# Altium integrated library Cypress Clocks & Buffers Clock Generation.IntLib: 249 symbols (part 6 of 12)
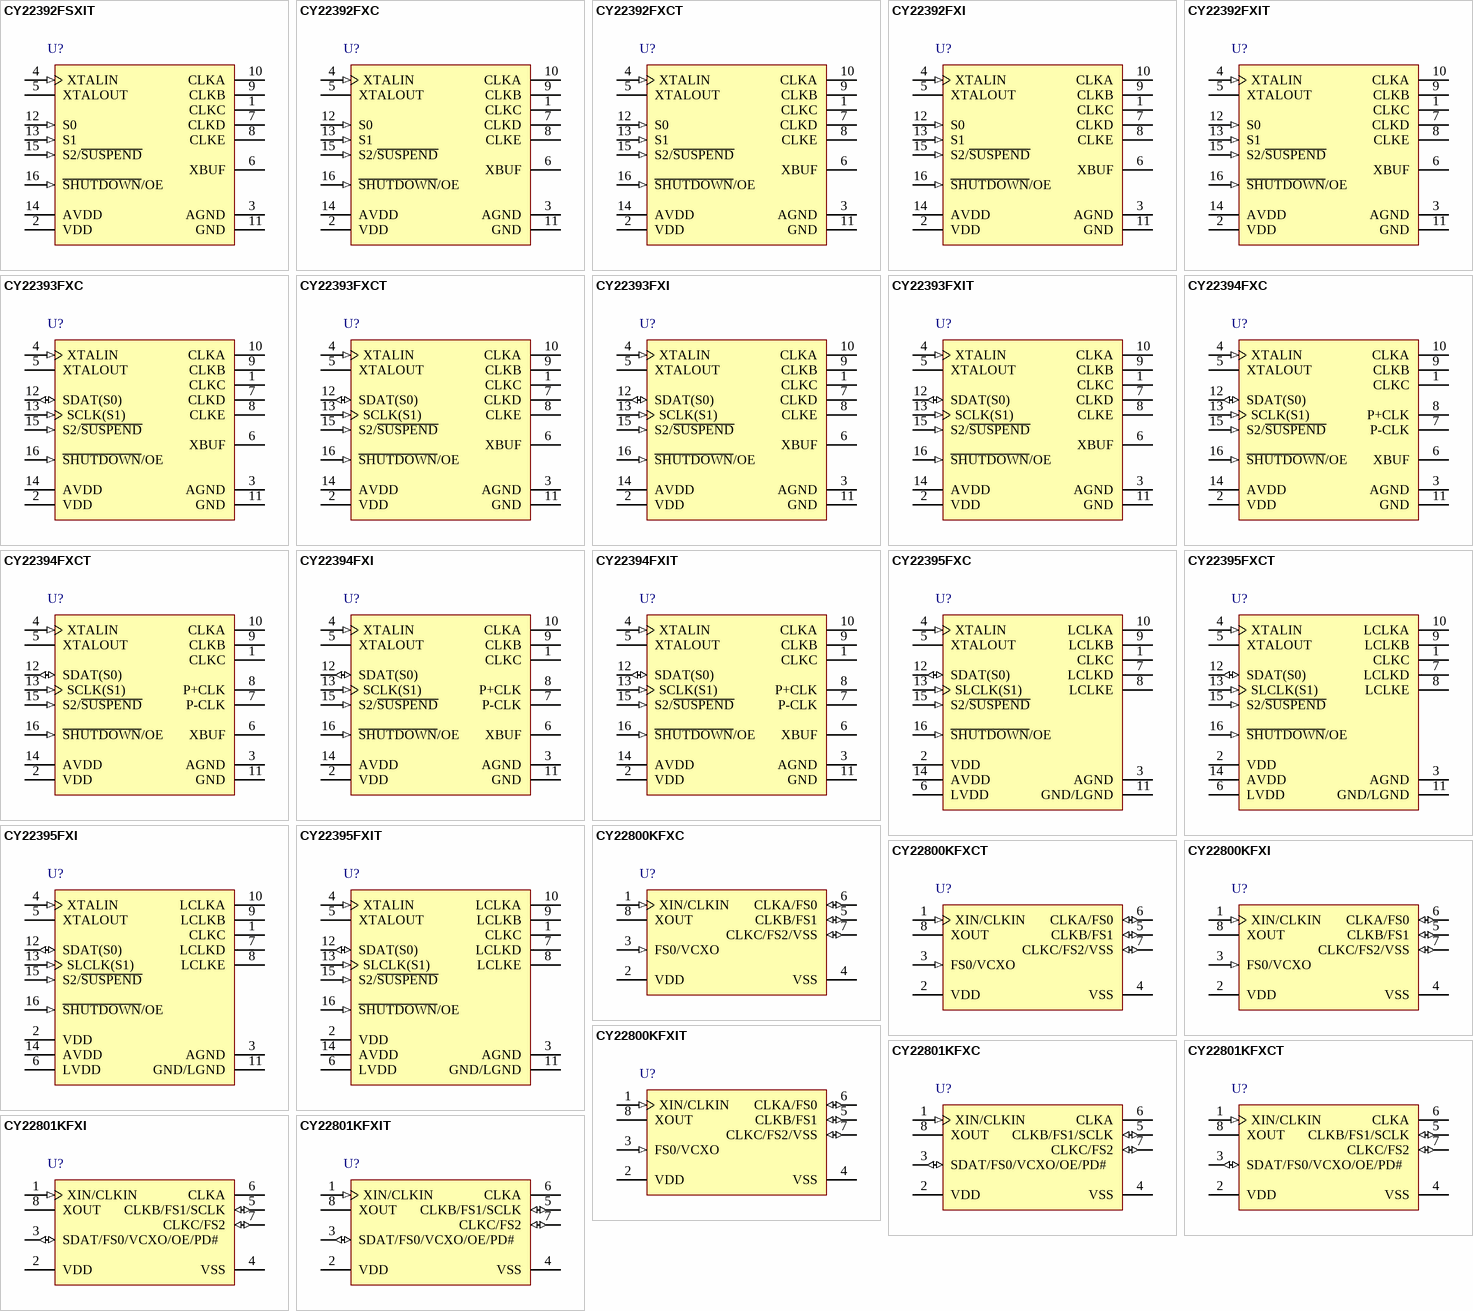
[diagram p13: symbols CY22392FSXIT to CY22801KFXIT]

## CY22395FXIT
designator U?
Three-PLL Serial-Programmable Flash-Programmable Clock Generator, 2.5 / 3.3 V, 5 Outputs, 166 MHz Maximum, -40 to 85 degC, 16-Pin TSSOP (ZX16), Tape and Reel; Manufacturer: Cypress; PartNumber: CY22395FXIT; Input Frequency Max. (MHz): 150; Input Frequency Min. (MHz): 1; Max. Operating Voltage (V): 3.465; Min. Operating Voltage (V): 3.135; No. of Outputs: 5; Output Frequency Max. (MHz): 166; DatasheetVersion: Rev. *I; PackageVersion: Rev. *D, 09/2011; PackageReference: ZX16; PackageDescription: 16-Pin Thin Shrink Small Outline Package, Body 5 x 4.4 mm, Pitch 0.65 mm; Supplier 1: Digi-Key; Supplier Part Number 1: CY22395FXIT-ND; Supplier 2: Mouser; Supplier Part Number 2: 727-CY22395FXIT; Max. Operating Temp. (degreesC): 85; Min. Operating Temp. (degreesC): -40; Packing: Tape and Reel; RoHS: Pb-Free; Mounting Technology: Surface Mount; Code_JEDEC: MO-153; ComponentLink1Description: Manufacturer URL; ComponentLink1URL: http://www.cypress.com/; ComponentLink2Description: Datasheet; ComponentLink2URL: http://www.cypress.com/?docID=35555; ComponentLink3Description: Package Specification; ComponentLink3URL: http://www.cypress.com/?docID=39143
footprint CYP-ZX16_N (SOP, 16-Leads, Body 5.1x4.5mm, Pitch 0.65mm, IPC Medium Density)
footprint CYP-ZX16_L (SOP, 16-Leads, Body 5.1x4.5mm, Pitch 0.65mm, IPC High Density)
footprint CYP-ZX16_M (SOP, 16-Leads, Body 5.1x4.5mm, Pitch 0.65mm, IPC Low Density)
pins: 1 CLKC (hiz) "Configurable clock output C", 2 VDD (power) "Power supply", 3 AGND (power) "Analog Ground", 4 XTALIN (in) "Reference crystal input or external reference clock input", 5 XTALOUT "Reference crystal feedback", 6 LVDD (power) "Low voltage clock output power supply", 7 LCLKD (hiz) "Configurable clock output D; LCLKD referenced to LVDD", 8 LCLKE (hiz) "Configurable clock output E; LCLKE referenced to LVDD", 9 LCLKB (hiz) "Configurable clock output B; LCLKB referenced to LVDD", 10 LCLKA (hiz) "Configurable clock output A; LCLKA referenced to LVDD", 11 GND/LGND (power) "Ground", 12 SDAT(S0) (io) "Serial port data. S0 value latched during start up", 13 SLCLK(S1) (in) "Serial port clock. S1 value latched during start up", 14 AVDD (power) "Analog power supply", 15 S2/~{SUSPEND} (in) "General purpose input for frequency control; bit 2. Optionally, Suspend mode control input", 16 ~{SHUTDOWN}/OE (in) "Places outputs in tristate condition and shuts down chip when LOW. Optionally, only places outputs in tristate condition and does not shut down chip when LOW"

## CY22800KFXC
designator U?
Universal Programmable Clock Generator (UPCG), 3.3 V, 3 Outputs, 1 to 200 MHz, 0 to 70 degC, 8-Pin SOIC (SX8), Tube; Manufacturer: Cypress; PartNumber: CY22800KFXC; Input Frequency Max. (MHz): 100; Input Frequency Min. (MHz): 0.5; Max. Operating Voltage (V): 3.47; Min. Operating Voltage (V): 3.14; No. of Outputs: 3; Output Frequency Max. (MHz): 200; Output Frequency Min. (MHz): 1; DatasheetVersion: Rev. *E; PackageVersion: Rev. *E, 06/2011; PackageReference: SX8; PackageDescription: 8-pin Lead SOIC-S08, Body 4.89 x 3.90 mm,Pitch 1.27 mm; Supplier 1: Digi-Key; Supplier Part Number 1: CY22800KFXC-ND; Supplier 2: Mouser; Supplier Part Number 2: 727-CY22800KFXC; Max. Operating Temp. (degreesC): 70; Min. Operating Temp. (degreesC): 0; Packing: Tube; RoHS: Pb-Free; Mounting Technology: Surface Mount; Code_JEDEC: MS-012; ComponentLink1Description: Manufacturer URL; ComponentLink1URL: http://www.cypress.com/; ComponentLink2Description: Datasheet; ComponentLink2URL: http://www.cypress.com/?docID=33233; ComponentLink3Description: Package Specification; ComponentLink3URL: http://www.cypress.com/?docID=39153
footprint CYP-SX8_N (SOIC, 8-Leads, Body 4.89x3.90mm, Pitch 1.27mm, IPC Medium Density)
footprint CYP-SX8_L (SOIC, 8-Leads, Body 4.89x3.90mm, Pitch 1.27mm, IPC High Density)
footprint CYP-SX8_M (SOIC, 8-Leads, Body 4.89x3.90mm, Pitch 1.27mm, IPC Low Density)
pins: 1 XIN/CLKIN (in) "Reference input; crystal or external clock", 2 VDD (power) "3.3 V voltage supply", 3 FS0/VCXO (in) "Frequency select 0/VCXO analog control voltage", 4 VSS (power) "Ground", 5 CLKB/FS1 (io) "Clock output B/frequency select 1", 6 CLKA/FS0 (io) "Clock output A/frequency select 0", 7 CLKC/FS2/VSS (io) "Clock output C/frequency select 2/VSS", 8 XOUT "Reference output (No Connect when the reference is a clock)"

## CY22800KFXCT
designator U?
Universal Programmable Clock Generator (UPCG), 3.3 V, 3 Outputs, 1 to 200 MHz, 0 to 70 degC, 8-Pin SOIC (SX8), Tape and Reel; Manufacturer: Cypress; PartNumber: CY22800KFXCT; Input Frequency Max. (MHz): 100; Input Frequency Min. (MHz): 0.5; Max. Operating Voltage (V): 3.47; Min. Operating Voltage (V): 3.14; No. of Outputs: 3; Output Frequency Max. (MHz): 200; Output Frequency Min. (MHz): 1; DatasheetVersion: Rev. *E; PackageVersion: Rev. *E, 06/2011; PackageReference: SX8; PackageDescription: 8-pin Lead SOIC-S08, Body 4.89 x 3.90 mm,Pitch 1.27 mm; Supplier 1: Digi-Key; Supplier Part Number 1: CY22800KFXCT-ND; Supplier 2: Mouser; Supplier Part Number 2: 727-CY22800KFXCT; Max. Operating Temp. (degreesC): 70; Min. Operating Temp. (degreesC): 0; Packing: Tape and Reel; RoHS: Pb-Free; Mounting Technology: Surface Mount; Code_JEDEC: MS-012; ComponentLink1Description: Manufacturer URL; ComponentLink1URL: http://www.cypress.com/; ComponentLink2Description: Datasheet; ComponentLink2URL: http://www.cypress.com/?docID=33233; ComponentLink3Description: Package Specification; ComponentLink3URL: http://www.cypress.com/?docID=39153
footprint CYP-SX8_N (SOIC, 8-Leads, Body 4.89x3.90mm, Pitch 1.27mm, IPC Medium Density)
footprint CYP-SX8_L (SOIC, 8-Leads, Body 4.89x3.90mm, Pitch 1.27mm, IPC High Density)
footprint CYP-SX8_M (SOIC, 8-Leads, Body 4.89x3.90mm, Pitch 1.27mm, IPC Low Density)
pins: 1 XIN/CLKIN (in) "Reference input; crystal or external clock", 2 VDD (power) "3.3 V voltage supply", 3 FS0/VCXO (in) "Frequency select 0/VCXO analog control voltage", 4 VSS (power) "Ground", 5 CLKB/FS1 (io) "Clock output B/frequency select 1", 6 CLKA/FS0 (io) "Clock output A/frequency select 0", 7 CLKC/FS2/VSS (io) "Clock output C/frequency select 2/VSS", 8 XOUT "Reference output (No Connect when the reference is a clock)"

## CY22800KFXI
designator U?
Universal Programmable Clock Generator (UPCG), 3.3 V, 3 Outputs, 1 to 166 MHz, -40 to 85 degC, 8-Pin SOIC (SX8), Tube; Manufacturer: Cypress; PartNumber: CY22800KFXI; Input Frequency Max. (MHz): 100; Input Frequency Min. (MHz): 0.5; Max. Operating Voltage (V): 3.47; Min. Operating Voltage (V): 3.14; No. of Outputs: 3; Output Frequency Max. (MHz): 166; Output Frequency Min. (MHz): 1; DatasheetVersion: Rev. *E; PackageVersion: Rev. *E, 06/2011; PackageReference: SX8; PackageDescription: 8-pin Lead SOIC-S08, Body 4.89 x 3.90 mm,Pitch 1.27 mm; Supplier 1: Digi-Key; Supplier Part Number 1: 428-3042-ND; Supplier 2: Mouser; Supplier Part Number 2: 727-CY22800KFXI; Max. Operating Temp. (degreesC): 85; Min. Operating Temp. (degreesC): -40; Packing: Tube; RoHS: Pb-Free; Mounting Technology: Surface Mount; Code_JEDEC: MS-012; ComponentLink1Description: Manufacturer URL; ComponentLink1URL: http://www.cypress.com/; ComponentLink2Description: Datasheet; ComponentLink2URL: http://www.cypress.com/?docID=33233; ComponentLink3Description: Package Specification; ComponentLink3URL: http://www.cypress.com/?docID=39153
footprint CYP-SX8_N (SOIC, 8-Leads, Body 4.89x3.90mm, Pitch 1.27mm, IPC Medium Density)
footprint CYP-SX8_L (SOIC, 8-Leads, Body 4.89x3.90mm, Pitch 1.27mm, IPC High Density)
footprint CYP-SX8_M (SOIC, 8-Leads, Body 4.89x3.90mm, Pitch 1.27mm, IPC Low Density)
pins: 1 XIN/CLKIN (in) "Reference input; crystal or external clock", 2 VDD (power) "3.3 V voltage supply", 3 FS0/VCXO (in) "Frequency select 0/VCXO analog control voltage", 4 VSS (power) "Ground", 5 CLKB/FS1 (io) "Clock output B/frequency select 1", 6 CLKA/FS0 (io) "Clock output A/frequency select 0", 7 CLKC/FS2/VSS (io) "Clock output C/frequency select 2/VSS", 8 XOUT "Reference output (No Connect when the reference is a clock)"

## CY22800KFXIT
designator U?
Universal Programmable Clock Generator (UPCG), 3.3 V, 3 Outputs, 1 to 166 MHz, -40 to 85 degC, 8-Pin SOIC (SX8), Tape and Reel; Manufacturer: Cypress; PartNumber: CY22800KFXIT; Input Frequency Max. (MHz): 100; Input Frequency Min. (MHz): 0.5; Max. Operating Voltage (V): 3.47; Min. Operating Voltage (V): 3.14; No. of Outputs: 3; Output Frequency Max. (MHz): 166; Output Frequency Min. (MHz): 1; DatasheetVersion: Rev. *E; PackageVersion: Rev. *E, 06/2011; PackageReference: SX8; PackageDescription: 8-pin Lead SOIC-S08, Body 4.89 x 3.90 mm,Pitch 1.27 mm; Supplier 1: Digi-Key; Supplier Part Number 1: CY22800KFXIT-ND; Supplier 2: Mouser; Supplier Part Number 2: 727-CY22800KFXIT; Max. Operating Temp. (degreesC): 85; Min. Operating Temp. (degreesC): -40; Packing: Tape and Reel; RoHS: Pb-Free; Mounting Technology: Surface Mount; Code_JEDEC: MS-012; ComponentLink1Description: Manufacturer URL; ComponentLink1URL: http://www.cypress.com/; ComponentLink2Description: Datasheet; ComponentLink2URL: http://www.cypress.com/?docID=33233; ComponentLink3Description: Package Specification; ComponentLink3URL: http://www.cypress.com/?docID=39153
footprint CYP-SX8_N (SOIC, 8-Leads, Body 4.89x3.90mm, Pitch 1.27mm, IPC Medium Density)
footprint CYP-SX8_L (SOIC, 8-Leads, Body 4.89x3.90mm, Pitch 1.27mm, IPC High Density)
footprint CYP-SX8_M (SOIC, 8-Leads, Body 4.89x3.90mm, Pitch 1.27mm, IPC Low Density)
pins: 1 XIN/CLKIN (in) "Reference input; crystal or external clock", 2 VDD (power) "3.3 V voltage supply", 3 FS0/VCXO (in) "Frequency select 0/VCXO analog control voltage", 4 VSS (power) "Ground", 5 CLKB/FS1 (io) "Clock output B/frequency select 1", 6 CLKA/FS0 (io) "Clock output A/frequency select 0", 7 CLKC/FS2/VSS (io) "Clock output C/frequency select 2/VSS", 8 XOUT "Reference output (No Connect when the reference is a clock)"

## CY22801KFXC
designator U?
Universal Programmable Clock Generator (UPCG), 3.3 V, 3 Outputs, 1 to 200 MHz, 0 to 70 degC, 8-Pin SOIC (SX8), Tube; Manufacturer: Cypress; PartNumber: CY22801KFXC; Input Frequency Max. (MHz): 133; Input Frequency Min. (MHz): 1; Max. Operating Voltage (V): 3.47; Min. Operating Voltage (V): 3.14; No. of Outputs: 3; Output Frequency Max. (MHz): 200; DatasheetVersion: Rev. *H; PackageVersion: Rev. *E, 06/2011; PackageReference: SX8; PackageDescription: 8-pin Lead SOIC-S08, Body 4.89 x 3.90 mm,Pitch 1.27 mm; Supplier 1: Digi-Key; Supplier Part Number 1: CY22801KFXC-ND; Supplier 2: Mouser; Supplier Part Number 2: 727-CY22801KFXC; Max. Operating Temp. (degreesC): 70; Min. Operating Temp. (degreesC): 0; Output Frequency Min. (MHz): 1; Packing: Tube; RoHS: Pb-Free; Mounting Technology: Surface Mount; Code_JEDEC: MS-012; ComponentLink1Description: Manufacturer URL; ComponentLink1URL: http://www.cypress.com/; ComponentLink2Description: Datasheet; ComponentLink2URL: http://www.cypress.com/?docID=38684; ComponentLink3Description: Package Specification; ComponentLink3URL: http://www.cypress.com/?docID=39153
footprint CYP-SX8_N (SOIC, 8-Leads, Body 4.89x3.90mm, Pitch 1.27mm, IPC Medium Density)
footprint CYP-SX8_L (SOIC, 8-Leads, Body 4.89x3.90mm, Pitch 1.27mm, IPC High Density)
footprint CYP-SX8_M (SOIC, 8-Leads, Body 4.89x3.90mm, Pitch 1.27mm, IPC Low Density)
pins: 1 XIN/CLKIN (in) "External reference crystal input / external reference clock input", 2 VDD (power) "3.3 V voltage supply", 3 SDAT/FS0/VCXO/OE/PD# (io) "Serial interface data line / frequency select 0 / VCXO analog control voltage / Output Enable / Power-down", 4 VSS (power) "Ground", 5 CLKB/FS1/SCLK (io) "Clock output B / frequency select 1 / serial interface clock line", 6 CLKA (hiz) "Clock output A", 7 CLKC/FS2 (io) "Clock output C / frequency select 3 / VSS", 8 XOUT "External reference crystal output: Connect to external crystal. When the reference is an external clock signal (applied to pin 1), this pin is not used and must be left floating."

## CY22801KFXCT
designator U?
Universal Programmable Clock Generator (UPCG), 3.3 V, 3 Outputs, 1 to 200 MHz, 0 to 70 degC, 8-Pin SOIC (SX8), Tape and Reel; Manufacturer: Cypress; PartNumber: CY22801KFXCT; Input Frequency Max. (MHz): 133; Input Frequency Min. (MHz): 1; Max. Operating Voltage (V): 3.47; Min. Operating Voltage (V): 3.14; No. of Outputs: 3; Output Frequency Max. (MHz): 200; DatasheetVersion: Rev. *H; PackageVersion: Rev. *E, 06/2011; PackageReference: SX8; PackageDescription: 8-pin Lead SOIC-S08, Body 4.89 x 3.90 mm,Pitch 1.27 mm; Supplier 1: Digi-Key; Supplier Part Number 1: CY22801KFXCT-ND; Supplier 2: Mouser; Supplier Part Number 2: 727-CY22801KFXCT; Max. Operating Temp. (degreesC): 70; Min. Operating Temp. (degreesC): 0; Output Frequency Min. (MHz): 1; Packing: Tape and Reel; RoHS: Pb-Free; Mounting Technology: Surface Mount; Code_JEDEC: MS-012; ComponentLink1Description: Manufacturer URL; ComponentLink1URL: http://www.cypress.com/; ComponentLink2Description: Datasheet; ComponentLink2URL: http://www.cypress.com/?docID=38684; ComponentLink3Description: Package Specification; ComponentLink3URL: http://www.cypress.com/?docID=39153
footprint CYP-SX8_N (SOIC, 8-Leads, Body 4.89x3.90mm, Pitch 1.27mm, IPC Medium Density)
footprint CYP-SX8_L (SOIC, 8-Leads, Body 4.89x3.90mm, Pitch 1.27mm, IPC High Density)
footprint CYP-SX8_M (SOIC, 8-Leads, Body 4.89x3.90mm, Pitch 1.27mm, IPC Low Density)
pins: 1 XIN/CLKIN (in) "External reference crystal input / external reference clock input", 2 VDD (power) "3.3 V voltage supply", 3 SDAT/FS0/VCXO/OE/PD# (io) "Serial interface data line / frequency select 0 / VCXO analog control voltage / Output Enable / Power-down", 4 VSS (power) "Ground", 5 CLKB/FS1/SCLK (io) "Clock output B / frequency select 1 / serial interface clock line", 6 CLKA (hiz) "Clock output A", 7 CLKC/FS2 (io) "Clock output C / frequency select 3 / VSS", 8 XOUT "External reference crystal output: Connect to external crystal. When the reference is an external clock signal (applied to pin 1), this pin is not used and must be left floating."

## CY22801KFXI
designator U?
Universal Programmable Clock Generator (UPCG), 3.3 V, 3 Outputs, 1 to 166.6 MHz, -40 to 85 degC, 8-Pin SOIC (SX8), Tube; Manufacturer: Cypress; PartNumber: CY22801KFXI; Input Frequency Max. (MHz): 133; Input Frequency Min. (MHz): 1; Max. Operating Voltage (V): 3.47; Min. Operating Voltage (V): 3.14; No. of Outputs: 3; Output Frequency Max. (MHz): 166.6; DatasheetVersion: Rev. *H; PackageVersion: Rev. *E, 06/2011; PackageReference: SX8; PackageDescription: 8-pin Lead SOIC-S08, Body 4.89 x 3.90 mm,Pitch 1.27 mm; Supplier 1: Digi-Key; Supplier Part Number 1: CY22801KFXI-ND; Supplier 2: Newark; Supplier Part Number 2: 46P7560; Supplier 3: Mouser; Supplier Part Number 3: 727-CY22801KFXI; Max. Operating Temp. (degreesC): 85; Min. Operating Temp. (degreesC): -40; Output Frequency Min. (MHz): 1; Packing: Tube; RoHS: Pb-Free; Mounting Technology: Surface Mount; Code_JEDEC: MS-012; ComponentLink1Description: Manufacturer URL; ComponentLink1URL: http://www.cypress.com/; ComponentLink2Description: Datasheet; ComponentLink2URL: http://www.cypress.com/?docID=38684; ComponentLink3Description: Package Specification; ComponentLink3URL: http://www.cypress.com/?docID=39153
footprint CYP-SX8_N (SOIC, 8-Leads, Body 4.89x3.90mm, Pitch 1.27mm, IPC Medium Density)
footprint CYP-SX8_L (SOIC, 8-Leads, Body 4.89x3.90mm, Pitch 1.27mm, IPC High Density)
footprint CYP-SX8_M (SOIC, 8-Leads, Body 4.89x3.90mm, Pitch 1.27mm, IPC Low Density)
pins: 1 XIN/CLKIN (in) "External reference crystal input / external reference clock input", 2 VDD (power) "3.3 V voltage supply", 3 SDAT/FS0/VCXO/OE/PD# (io) "Serial interface data line / frequency select 0 / VCXO analog control voltage / Output Enable / Power-down", 4 VSS (power) "Ground", 5 CLKB/FS1/SCLK (io) "Clock output B / frequency select 1 / serial interface clock line", 6 CLKA (hiz) "Clock output A", 7 CLKC/FS2 (io) "Clock output C / frequency select 3 / VSS", 8 XOUT "External reference crystal output: Connect to external crystal. When the reference is an external clock signal (applied to pin 1), this pin is not used and must be left floating."

## CY22801KFXIT
designator U?
Universal Programmable Clock Generator (UPCG), 3.3 V, 3 Outputs, 1 to 166.6 MHz, -40 to 85 degC, 8-Pin SOIC (SX8), Tape and Reel; Manufacturer: Cypress; PartNumber: CY22801KFXIT; Input Frequency Max. (MHz): 133; Input Frequency Min. (MHz): 1; Max. Operating Voltage (V): 3.47; Min. Operating Voltage (V): 3.14; No. of Outputs: 3; Output Frequency Max. (MHz): 166.6; DatasheetVersion: Rev. *H; PackageVersion: Rev. *E, 06/2011; PackageReference: SX8; PackageDescription: 8-pin Lead SOIC-S08, Body 4.89 x 3.90 mm,Pitch 1.27 mm; Supplier 1: Digi-Key; Supplier Part Number 1: CY22801KFXIT-ND; Supplier 2: Mouser; Supplier Part Number 2: 727-CY22801KFXIT; Max. Operating Temp. (degreesC): 85; Min. Operating Temp. (degreesC): -40; Output Frequency Min. (MHz): 1; Packing: Tape and Reel; RoHS: Pb-Free; Mounting Technology: Surface Mount; Code_JEDEC: MS-012; ComponentLink1Description: Manufacturer URL; ComponentLink1URL: http://www.cypress.com/; ComponentLink2Description: Datasheet; ComponentLink2URL: http://www.cypress.com/?docID=38684; ComponentLink3Description: Package Specification; ComponentLink3URL: http://www.cypress.com/?docID=39153
footprint CYP-SX8_N (SOIC, 8-Leads, Body 4.89x3.90mm, Pitch 1.27mm, IPC Medium Density)
footprint CYP-SX8_L (SOIC, 8-Leads, Body 4.89x3.90mm, Pitch 1.27mm, IPC High Density)
footprint CYP-SX8_M (SOIC, 8-Leads, Body 4.89x3.90mm, Pitch 1.27mm, IPC Low Density)
pins: 1 XIN/CLKIN (in) "External reference crystal input / external reference clock input", 2 VDD (power) "3.3 V voltage supply", 3 SDAT/FS0/VCXO/OE/PD# (io) "Serial interface data line / frequency select 0 / VCXO analog control voltage / Output Enable / Power-down", 4 VSS (power) "Ground", 5 CLKB/FS1/SCLK (io) "Clock output B / frequency select 1 / serial interface clock line", 6 CLKA (hiz) "Clock output A", 7 CLKC/FS2 (io) "Clock output C / frequency select 3 / VSS", 8 XOUT "External reference crystal output: Connect to external crystal. When the reference is an external clock signal (applied to pin 1), this pin is not used and must be left floating."

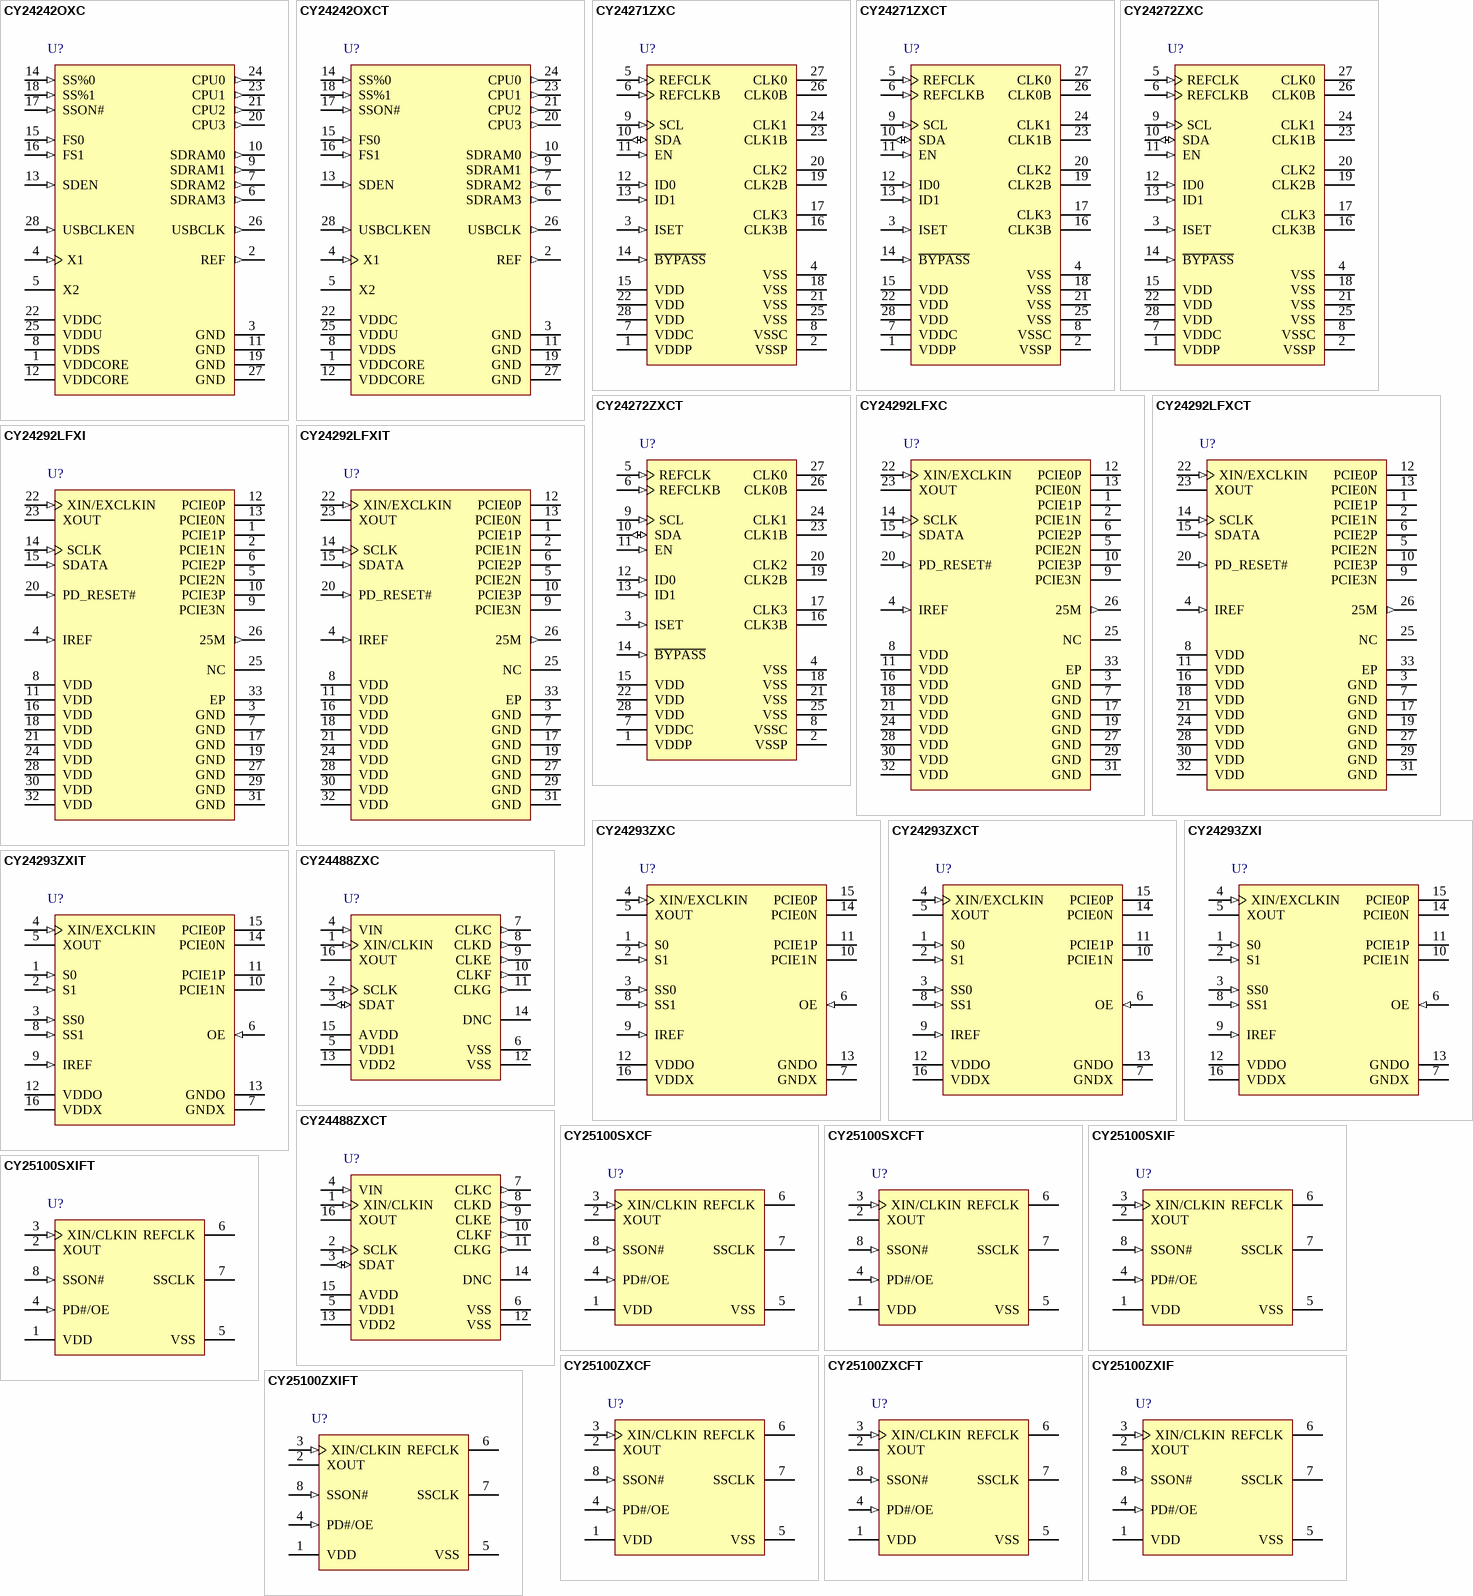
[diagram p4: symbols CY24242OXC to CY25100ZXIFT]

## CY24242OXC
designator U?
Laser Printer System Frequency Synthesizer, 2.5 / 3.3 V, 10 Outputs, 14.31818 to 133.3 MHz, 0 to 70 degC, 28-Pin SSOP (OX28), Tube; Manufacturer: Cypress; PartNumber: CY24242OXC; Max. Operating Voltage (V): 3.63; Min. Operating Voltage (V): 2.97; No. of Outputs: 10; Output Frequency Max. (MHz): 133.3; DatasheetVersion: Rev. *F; PackageVersion: Rev. *C, 10/2001; PackageReference: OX28; PackageDescription: 28-Pin SSOP, Body 10.2 x 5.3 mm, Pitch 0.65 mm; Supplier 1: Digi-Key; Supplier Part Number 1: CY24242OXC-ND; Supplier 2: Mouser; Supplier Part Number 2: 727-CY24242OXC; Input Frequency Max. (MHz): 14.31818; Input Frequency Min. (MHz): 14.31818; Max. Operating Temp. (degreesC): 70; Min. Operating Temp. (degreesC): 0; Output Frequency Min. (MHz): 14.31818; Packing: Tube; RoHS: Pb-Free; Mounting Technology: Surface Mount; ComponentLink1Description: Manufacturer URL; ComponentLink1URL: http://www.cypress.com/; ComponentLink2Description: Datasheet; ComponentLink2URL: http://www.cypress.com/?docID=48477; ComponentLink3Description: Package Specification; ComponentLink3URL: http://www.cypress.com/?docID=1371
footprint CYP-OX28_N (SOP, 28-Leads, Body 10.4x5.6mm, Pitch 0.65mm, IPC Medium Density)
footprint CYP-OX28_L (SOP, 28-Leads, Body 10.4x5.6mm, Pitch 0.65mm, IPC High Density)
footprint CYP-OX28_M (SOP, 28-Leads, Body 10.4x5.6mm, Pitch 0.65mm, IPC Low Density)
pins: 1 VDDCORE (power) "Power Connection: Core Power supply. Connect to 3.3 V supply", 2 REF (out) "Reference Output: This output will be equal in frequency to the reference signal provided at X1/X2.", 3 GND (power) "Ground Connections: Connect all ground pins to the common system ground plane.", 4 X1 (in) "Crystal Connection or External Reference Frequency Input: Connect to either a 14.318-MHz crystal or other reference signal.", 5 X2 "Crystal Connection: An input connection for an external 14.318-MHz crystal. If using an external reference, this pin must be left unconnected.", 6 SDRAM3 (out) "SDRAM Outputs: These four SDRAM clock outputs run synchronously to the CPU clock. Modulation and frequency follow the CPU outputs.", 7 SDRAM2 (out) "SDRAM Outputs: These four SDRAM clock outputs run synchronously to the CPU clock. Modulation and frequency follow the CPU outputs.", 8 VDDS (power) "Power Connection: Power supply for the SDRAM outputs. Connect to 3.3 V or 2.5 V supply.", 9 SDRAM1 (out) "SDRAM Outputs: These four SDRAM clock outputs run synchronously to the CPU clock. Modulation and frequency follow the CPU outputs.", 10 SDRAM0 (out) "SDRAM Outputs: These four SDRAM clock outputs run synchronously to the CPU clock. Modulation and frequency follow the CPU outputs.", 11 GND (power) "Ground Connections: Connect all ground pins to the common system ground plane.", 12 VDDCORE (power) "Power Connection: Core Power supply. Connect to 3.3 V supply", 13 SDEN (in) "SDRAM Bank Disable Input: When this pin is pulled LOW, outputs SDRAM0:3 will be disabled to a LOW state.", 14 SS%0 (in) "Modulation Width Selection Inputs: These inputs select the width of the Spread Spectrum feature when it is enabled by SSON#.", 15 FS0 (in) "Frequency Selection Inputs: Selects CPU clock frequency as shown in Table 1.", 16 FS1 (in) "Frequency Selection Inputs: Selects CPU clock frequency as shown in Table 1.", 17 SSON# (in) "CPU Spread Spectrum Enable Input: When this pin is pulled LOW, outputs CPU0:3 and SDRAM0:3 will have the Spread Spectrum Feature enabled.", 18 SS%1 (in) "Modulation Width Selection Inputs: These inputs select the width of the Spread Spectrum feature when it is enabled by SSON#.", 19 GND (power) "Ground Connections: Connect all ground pins to the common system ground plane.", 20 CPU3 (out) "CPU Clock Outputs: These four outputs run at a frequency set by FS0:1. The width of the Spread Spectrum Modulation is enabled by pin SSON#, and selected by pins SS%0:1.", 21 CPU2 (out) "CPU Clock Outputs: These four outputs run at a frequency set by FS0:1. The width of the Spread Spectrum Modulation is enabled by pin SSON#, and selected by pins SS%0:1.", 22 VDDC (power) "Power Connection: Power supply for the CPU outputs. Connect to 3.3 V or 2.5 V supply", 23 CPU1 (out) "CPU Clock Outputs: These four outputs run at a frequency set by FS0:1. The width of the Spread Spectrum Modulation is enabled by pin SSON#, and selected by pins SS%0:1.", 24 CPU0 (out) "CPU Clock Outputs: These four outputs run at a frequency set by FS0:1. The width of the Spread Spectrum Modulation is enabled by pin SSON#, and selected by pins SS%0:1.", 25 VDDU (power) "Power Connection: Power supply for the USB output. Connect to 3.3 V or 2.5 V supply.", 26 USBCLK (out) "USB Output: Timing signal running at 48.0080 MHz when a 14.31818-MHz frequency is provided as the reference. (167 ppm accuracy to 48 MHz, the output is equal to the reference times 57/17.)", 27 GND (power) "Ground Connections: Connect all ground pins to the common system ground plane.", 28 USBCLKEN (in) "USB Disable Input: When this pin is pulled LOW, output USBCLK will be disabled to a LOW state"

## CY24242OXCT
designator U?
Laser Printer System Frequency Synthesizer, 2.5 / 3.3 V, 10 Outputs, 14.31818 to 133.3 MHz, 0 to 70 degC, 28-Pin SSOP (OX28), Tape and Reel; Manufacturer: Cypress; PartNumber: CY24242OXCT; Max. Operating Voltage (V): 3.63; Min. Operating Voltage (V): 2.97; No. of Outputs: 10; Output Frequency Max. (MHz): 133.3; DatasheetVersion: Rev. *F; PackageVersion: Rev. *C, 10/2001; PackageReference: OX28; PackageDescription: 28-Pin SSOP, Body 10.2 x 5.3 mm, Pitch 0.65 mm; Supplier 1: Digi-Key; Supplier Part Number 1: CY24242OXCT-ND; Supplier 2: Mouser; Supplier Part Number 2: 727-CY24242OXCT; Input Frequency Max. (MHz): 14.31818; Input Frequency Min. (MHz): 14.31818; Max. Operating Temp. (degreesC): 70; Min. Operating Temp. (degreesC): 0; Output Frequency Min. (MHz): 14.31818; Packing: Tape and Reel; RoHS: Pb-Free; Mounting Technology: Surface Mount; ComponentLink1Description: Manufacturer URL; ComponentLink1URL: http://www.cypress.com/; ComponentLink2Description: Datasheet; ComponentLink2URL: http://www.cypress.com/?docID=48477; ComponentLink3Description: Package Specification; ComponentLink3URL: http://www.cypress.com/?docID=1371
footprint CYP-OX28_N (SOP, 28-Leads, Body 10.4x5.6mm, Pitch 0.65mm, IPC Medium Density)
footprint CYP-OX28_L (SOP, 28-Leads, Body 10.4x5.6mm, Pitch 0.65mm, IPC High Density)
footprint CYP-OX28_M (SOP, 28-Leads, Body 10.4x5.6mm, Pitch 0.65mm, IPC Low Density)
pins: 1 VDDCORE (power) "Power Connection: Core Power supply. Connect to 3.3 V supply", 2 REF (out) "Reference Output: This output will be equal in frequency to the reference signal provided at X1/X2.", 3 GND (power) "Ground Connections: Connect all ground pins to the common system ground plane.", 4 X1 (in) "Crystal Connection or External Reference Frequency Input: Connect to either a 14.318-MHz crystal or other reference signal.", 5 X2 "Crystal Connection: An input connection for an external 14.318-MHz crystal. If using an external reference, this pin must be left unconnected.", 6 SDRAM3 (out) "SDRAM Outputs: These four SDRAM clock outputs run synchronously to the CPU clock. Modulation and frequency follow the CPU outputs.", 7 SDRAM2 (out) "SDRAM Outputs: These four SDRAM clock outputs run synchronously to the CPU clock. Modulation and frequency follow the CPU outputs.", 8 VDDS (power) "Power Connection: Power supply for the SDRAM outputs. Connect to 3.3 V or 2.5 V supply.", 9 SDRAM1 (out) "SDRAM Outputs: These four SDRAM clock outputs run synchronously to the CPU clock. Modulation and frequency follow the CPU outputs.", 10 SDRAM0 (out) "SDRAM Outputs: These four SDRAM clock outputs run synchronously to the CPU clock. Modulation and frequency follow the CPU outputs.", 11 GND (power) "Ground Connections: Connect all ground pins to the common system ground plane.", 12 VDDCORE (power) "Power Connection: Core Power supply. Connect to 3.3 V supply", 13 SDEN (in) "SDRAM Bank Disable Input: When this pin is pulled LOW, outputs SDRAM0:3 will be disabled to a LOW state.", 14 SS%0 (in) "Modulation Width Selection Inputs: These inputs select the width of the Spread Spectrum feature when it is enabled by SSON#.", 15 FS0 (in) "Frequency Selection Inputs: Selects CPU clock frequency as shown in Table 1.", 16 FS1 (in) "Frequency Selection Inputs: Selects CPU clock frequency as shown in Table 1.", 17 SSON# (in) "CPU Spread Spectrum Enable Input: When this pin is pulled LOW, outputs CPU0:3 and SDRAM0:3 will have the Spread Spectrum Feature enabled.", 18 SS%1 (in) "Modulation Width Selection Inputs: These inputs select the width of the Spread Spectrum feature when it is enabled by SSON#.", 19 GND (power) "Ground Connections: Connect all ground pins to the common system ground plane.", 20 CPU3 (out) "CPU Clock Outputs: These four outputs run at a frequency set by FS0:1. The width of the Spread Spectrum Modulation is enabled by pin SSON#, and selected by pins SS%0:1.", 21 CPU2 (out) "CPU Clock Outputs: These four outputs run at a frequency set by FS0:1. The width of the Spread Spectrum Modulation is enabled by pin SSON#, and selected by pins SS%0:1.", 22 VDDC (power) "Power Connection: Power supply for the CPU outputs. Connect to 3.3 V or 2.5 V supply", 23 CPU1 (out) "CPU Clock Outputs: These four outputs run at a frequency set by FS0:1. The width of the Spread Spectrum Modulation is enabled by pin SSON#, and selected by pins SS%0:1.", 24 CPU0 (out) "CPU Clock Outputs: These four outputs run at a frequency set by FS0:1. The width of the Spread Spectrum Modulation is enabled by pin SSON#, and selected by pins SS%0:1.", 25 VDDU (power) "Power Connection: Power supply for the USB output. Connect to 3.3 V or 2.5 V supply.", 26 USBCLK (out) "USB Output: Timing signal running at 48.0080 MHz when a 14.31818-MHz frequency is provided as the reference. (167 ppm accuracy to 48 MHz, the output is equal to the reference times 57/17.)", 27 GND (power) "Ground Connections: Connect all ground pins to the common system ground plane.", 28 USBCLKEN (in) "USB Disable Input: When this pin is pulled LOW, output USBCLK will be disabled to a LOW state"

## CY24271ZXC
designator U?
Rambus(R) XDR(TM) Clock Generator, 2.5 V, 4 Outputs, 300 to 800 MHz, 0 to 70 degC, 28-Pin TSSOP (ZX28), Tube; Manufacturer: Cypress; PartNumber: CY24271ZXC; Input Frequency Max. (MHz): 133; Input Frequency Min. (MHz): 100; Max. Operating Voltage (V): 2.625; Min. Operating Voltage (V): 2.375; No. of Outputs: 4; Output Frequency Max. (MHz): 800; Output Frequency Min. (MHz): 300; DatasheetVersion: Rev. *D; PackageVersion: Rev. *C; PackageReference: ZX28; PackageDescription: 28-Pin Thin Shrink Small Outline Package, Body 9.7 x 4.4 mm, Pitch 0.65 mm; Supplier 1: Digi-Key; Supplier Part Number 1: 428-2218-5-ND; Supplier 2: Mouser; Supplier Part Number 2: 727-CY24271ZXC; Max. Operating Temp. (degreesC): 70; Min. Operating Temp. (degreesC): 0; Packing: Tube; RoHS: Pb-Free; Mounting Technology: Surface Mount; Code_JEDEC: MO-153; ComponentLink1Description: Manufacturer URL; ComponentLink1URL: http://www.cypress.com/; ComponentLink2Description: Datasheet; ComponentLink2URL: http://www.cypress.com/?docID=47939; ComponentLink3Description: Package Specification; ComponentLink3URL: http://www.cypress.com/?docID=48132
footprint CYP-ZX28_N (SOP, 28-Leads, Body 9.8x4.5mm, Pitch 0.65mm, IPC Medium Density)
footprint CYP-ZX28_L (SOP, 28-Leads, Body 9.8x4.5mm, Pitch 0.65mm, IPC High Density)
footprint CYP-ZX28_M (SOP, 28-Leads, Body 9.8x4.5mm, Pitch 0.65mm, IPC Low Density)
pins: 1 VDDP (power) "2.5 V power supply for phased lock loop (PLL)", 2 VSSP (power) "Ground", 3 ISET (in) "Set clock driver current (external resistor)", 4 VSS (power) "Ground", 5 REFCLK (in) "Reference clock input (connect to clock source)", 6 REFCLKB (in) "Complement of reference clock (connect to clock source)", 7 VDDC (power) "2.5 V power supply for core", 8 VSSC (power) "Ground", 9 SCL (in) "SMBus clock (connect to smbus)", 10 SDA (io) "SMBus data (connect to smbus)", 11 EN (in) "Output Enable (CMOS signal)", 12 ID0 (in) "Device ID (CMOS signal)", 13 ID1 (in) "Device ID (CMOS signal)", 14 ~{BYPASS} (in) "REFCLK bypassing PLL (CMOS signal)", 15 VDD (power) "Power supply for outputs", 16 CLK3B (hiz) "Complement clock output", 17 CLK3 (hiz) "Clock output", 18 VSS (power) "Ground", 19 CLK2B (hiz) "Complement clock output", 20 CLK2 (hiz) "Clock output", 21 VSS (power) "Ground", 22 VDD (power) "Power supply for outputs", 23 CLK1B (hiz) "Complement clock output", 24 CLK1 (hiz) "Clock output", 25 VSS (power) "Ground", 26 CLK0B (hiz) "Complement clock output", 27 CLK0 (hiz) "Clock output", 28 VDD (power) "Power supply for outputs"

## CY24271ZXCT
designator U?
Rambus(R) XDR(TM) Clock Generator, 2.5 V, 4 Outputs, 300 to 800 MHz, 0 to 70 degC, 28-Pin TSSOP (ZX28), Tape and Reel; Manufacturer: Cypress; PartNumber: CY24271ZXCT; Input Frequency Max. (MHz): 133; Input Frequency Min. (MHz): 100; Max. Operating Voltage (V): 2.625; Min. Operating Voltage (V): 2.375; No. of Outputs: 4; Output Frequency Max. (MHz): 800; Output Frequency Min. (MHz): 300; DatasheetVersion: Rev. *D; PackageVersion: Rev. *C; PackageReference: ZX28; PackageDescription: 28-Pin Thin Shrink Small Outline Package, Body 9.7 x 4.4 mm, Pitch 0.65 mm; Supplier 1: Digi-Key; Supplier Part Number 1: CY24271ZXCT-ND; Supplier 2: Mouser; Supplier Part Number 2: 727-CY24271ZXCT; Max. Operating Temp. (degreesC): 70; Min. Operating Temp. (degreesC): 0; Packing: Tape and Reel; RoHS: Pb-Free; Mounting Technology: Surface Mount; Code_JEDEC: MO-153; ComponentLink1Description: Manufacturer URL; ComponentLink1URL: http://www.cypress.com/; ComponentLink2Description: Datasheet; ComponentLink2URL: http://www.cypress.com/?docID=47939; ComponentLink3Description: Package Specification; ComponentLink3URL: http://www.cypress.com/?docID=48132
footprint CYP-ZX28_N (SOP, 28-Leads, Body 9.8x4.5mm, Pitch 0.65mm, IPC Medium Density)
footprint CYP-ZX28_L (SOP, 28-Leads, Body 9.8x4.5mm, Pitch 0.65mm, IPC High Density)
footprint CYP-ZX28_M (SOP, 28-Leads, Body 9.8x4.5mm, Pitch 0.65mm, IPC Low Density)
pins: 1 VDDP (power) "2.5 V power supply for phased lock loop (PLL)", 2 VSSP (power) "Ground", 3 ISET (in) "Set clock driver current (external resistor)", 4 VSS (power) "Ground", 5 REFCLK (in) "Reference clock input (connect to clock source)", 6 REFCLKB (in) "Complement of reference clock (connect to clock source)", 7 VDDC (power) "2.5 V power supply for core", 8 VSSC (power) "Ground", 9 SCL (in) "SMBus clock (connect to smbus)", 10 SDA (io) "SMBus data (connect to smbus)", 11 EN (in) "Output Enable (CMOS signal)", 12 ID0 (in) "Device ID (CMOS signal)", 13 ID1 (in) "Device ID (CMOS signal)", 14 ~{BYPASS} (in) "REFCLK bypassing PLL (CMOS signal)", 15 VDD (power) "Power supply for outputs", 16 CLK3B (hiz) "Complement clock output", 17 CLK3 (hiz) "Clock output", 18 VSS (power) "Ground", 19 CLK2B (hiz) "Complement clock output", 20 CLK2 (hiz) "Clock output", 21 VSS (power) "Ground", 22 VDD (power) "Power supply for outputs", 23 CLK1B (hiz) "Complement clock output", 24 CLK1 (hiz) "Clock output", 25 VSS (power) "Ground", 26 CLK0B (hiz) "Complement clock output", 27 CLK0 (hiz) "Clock output", 28 VDD (power) "Power supply for outputs"

## CY24272ZXC
designator U?
Rambus(R) XDR(TM) Clock Generator with Zero SDA Hold Time, 2.5 V, 4 Outputs, 300 to 667 MHz, 0 to 70 degC, 28-Pin TSSOP (ZX28), Tube; Manufacturer: Cypress; PartNumber: CY24272ZXC; Input Frequency Max. (MHz): 133; Input Frequency Min. (MHz): 100; Max. Operating Voltage (V): 2.625; Min. Operating Voltage (V): 2.375; No. of Outputs: 4; Output Frequency Max. (MHz): 667; Output Frequency Min. (MHz): 300; DatasheetVersion: Rev. *B; PackageVersion: Rev. *C; PackageReference: ZX28; PackageDescription: 28-Pin Thin Shrink Small Outline Package, Body 9.7 x 4.4 mm, Pitch 0.65 mm; Supplier 1: Digi-Key; Supplier Part Number 1: CY24272ZXC-ND; Supplier 2: Mouser; Supplier Part Number 2: 727-CY24272ZXC; Max. Operating Temp. (degreesC): 70; Min. Operating Temp. (degreesC): 0; Packing: Tube; RoHS: Pb-Free; Mounting Technology: Surface Mount; Code_JEDEC: MO-153; ComponentLink1Description: Manufacturer URL; ComponentLink1URL: http://www.cypress.com/; ComponentLink2Description: Datasheet; ComponentLink2URL: http://www.cypress.com/?docID=48132; ComponentLink3Description: Package Specification; ComponentLink3URL: http://www.cypress.com/?docID=48132
footprint CYP-ZX28_N (SOP, 28-Leads, Body 9.8x4.5mm, Pitch 0.65mm, IPC Medium Density)
footprint CYP-ZX28_L (SOP, 28-Leads, Body 9.8x4.5mm, Pitch 0.65mm, IPC High Density)
footprint CYP-ZX28_M (SOP, 28-Leads, Body 9.8x4.5mm, Pitch 0.65mm, IPC Low Density)
pins: 1 VDDP (power) "2.5 V power supply for phased lock loop (PLL)", 2 VSSP (power) "Ground", 3 ISET (in) "Set clock driver current (external resistor)", 4 VSS (power) "Ground", 5 REFCLK (in) "Reference clock input (connect to clock source)", 6 REFCLKB (in) "Complement of reference clock (connect to clock source)", 7 VDDC (power) "2.5 V power supply for core", 8 VSSC (power) "Ground", 9 SCL (in) "SMBus clock (connect to smbus)", 10 SDA (io) "SMBus data (connect to smbus)", 11 EN (in) "Output Enable (CMOS signal)", 12 ID0 (in) "Device ID (CMOS signal)", 13 ID1 (in) "Device ID (CMOS signal)", 14 ~{BYPASS} (in) "REFCLK bypassing PLL (CMOS signal)", 15 VDD (power) "Power supply for outputs", 16 CLK3B (hiz) "Complement clock output", 17 CLK3 (hiz) "Clock output", 18 VSS (power) "Ground", 19 CLK2B (hiz) "Complement clock output", 20 CLK2 (hiz) "Clock output", 21 VSS (power) "Ground", 22 VDD (power) "Power supply for outputs", 23 CLK1B (hiz) "Complement clock output", 24 CLK1 (hiz) "Clock output", 25 VSS (power) "Ground", 26 CLK0B (hiz) "Complement clock output", 27 CLK0 (hiz) "Clock output", 28 VDD (power) "Power supply for outputs"

## CY24272ZXCT
designator U?
Rambus(R) XDR(TM) Clock Generator with Zero SDA Hold Time, 2.5 V, 4 Outputs, 300 to 667 MHz, 0 to 70 degC, 28-Pin TSSOP (ZX28), Tape and Reel; Manufacturer: Cypress; PartNumber: CY24272ZXCT; Input Frequency Max. (MHz): 133; Input Frequency Min. (MHz): 100; Max. Operating Voltage (V): 2.625; Min. Operating Voltage (V): 2.375; No. of Outputs: 4; Output Frequency Max. (MHz): 667; Output Frequency Min. (MHz): 300; DatasheetVersion: Rev. *B; PackageVersion: Rev. *C; PackageReference: ZX28; PackageDescription: 28-Pin Thin Shrink Small Outline Package, Body 9.7 x 4.4 mm, Pitch 0.65 mm; Supplier 1: Digi-Key; Supplier Part Number 1: CY24272ZXCT-ND; Supplier 2: Mouser; Supplier Part Number 2: 727-CY24272ZXCT; Max. Operating Temp. (degreesC): 70; Min. Operating Temp. (degreesC): 0; Packing: Tape and Reel; RoHS: Pb-Free; Mounting Technology: Surface Mount; Code_JEDEC: MO-153; ComponentLink1Description: Manufacturer URL; ComponentLink1URL: http://www.cypress.com/; ComponentLink2Description: Datasheet; ComponentLink2URL: http://www.cypress.com/?docID=48132; ComponentLink3Description: Package Specification; ComponentLink3URL: http://www.cypress.com/?docID=48132
footprint CYP-ZX28_N (SOP, 28-Leads, Body 9.8x4.5mm, Pitch 0.65mm, IPC Medium Density)
footprint CYP-ZX28_L (SOP, 28-Leads, Body 9.8x4.5mm, Pitch 0.65mm, IPC High Density)
footprint CYP-ZX28_M (SOP, 28-Leads, Body 9.8x4.5mm, Pitch 0.65mm, IPC Low Density)
pins: 1 VDDP (power) "2.5 V power supply for phased lock loop (PLL)", 2 VSSP (power) "Ground", 3 ISET (in) "Set clock driver current (external resistor)", 4 VSS (power) "Ground", 5 REFCLK (in) "Reference clock input (connect to clock source)", 6 REFCLKB (in) "Complement of reference clock (connect to clock source)", 7 VDDC (power) "2.5 V power supply for core", 8 VSSC (power) "Ground", 9 SCL (in) "SMBus clock (connect to smbus)", 10 SDA (io) "SMBus data (connect to smbus)", 11 EN (in) "Output Enable (CMOS signal)", 12 ID0 (in) "Device ID (CMOS signal)", 13 ID1 (in) "Device ID (CMOS signal)", 14 ~{BYPASS} (in) "REFCLK bypassing PLL (CMOS signal)", 15 VDD (power) "Power supply for outputs", 16 CLK3B (hiz) "Complement clock output", 17 CLK3 (hiz) "Clock output", 18 VSS (power) "Ground", 19 CLK2B (hiz) "Complement clock output", 20 CLK2 (hiz) "Clock output", 21 VSS (power) "Ground", 22 VDD (power) "Power supply for outputs", 23 CLK1B (hiz) "Complement clock output", 24 CLK1 (hiz) "Clock output", 25 VSS (power) "Ground", 26 CLK0B (hiz) "Complement clock output", 27 CLK0 (hiz) "Clock output", 28 VDD (power) "Power supply for outputs"

## CY24292LFXC
designator U?
PCI-Express Clock Generator, 3.3 V, 5 Outputs, 100 MHz Maximum, 0 to 70 degC, 32-Pin QFN (LQX32), Tube; Manufacturer: Cypress; PartNumber: CY24292LFXC; Max. Operating Voltage (V): 3.6; Min. Operating Voltage (V): 3; No. of Outputs: 5; Output Frequency Max. (MHz): 100; DatasheetVersion: Rev. *D; PackageVersion: Rev. *E; PackageReference: LQX32; PackageDescription: 32-Pin QFN (5 x 4 x 0.55 mm) LQ32 3.5 x 3.5 E-Pad (Sawn); Supplier 1: Digi-Key; Supplier Part Number 1: 428-3012-ND; Supplier 2: Mouser; Supplier Part Number 2: 727-CY24292LFXC; Max. Operating Temp. (degreesC): 70; Min. Operating Temp. (degreesC): 0; Packing: Tube; RoHS: Pb-Free; Mounting Technology: Surface Mount; Code_JEDEC: MO-248; ComponentLink1Description: Manufacturer URL; ComponentLink1URL: http://www.cypress.com/; ComponentLink2Description: Datasheet; ComponentLink2URL: http://www.cypress.com/?docID=32724; ComponentLink3Description: Package Specification; ComponentLink3URL: http://www.cypress.com/?docID=46968
footprint CYP-LQX32_N (QFN, 32-Leads, Body 5x5mm, Pitch 0.5mm, Thermal Pad 3.5x3.5mm, IPC Medium Density)
footprint CYP-LQX32_L (QFN, 32-Leads, Body 5x5mm, Pitch 0.5mm, Thermal Pad 3.5X3.5mm, IPC High Density)
footprint CYP-LQX32_M (QFN, 32-Leads, Body 5x5mm, Pitch 0.5mm, Thermal Pad 3.5x3.5mm, IPC Low Density)
pins: 1 PCIE1P (hiz) "Differential 100 MHz PCI-Express true clock output. High impedance when disabled.", 2 PCIE1N (hiz) "Differential 100 MHz PCI-Express complementary clock output. High impedance when disabled.", 3 GND (power) "Ground", 4 IREF (in) "Current set for all differential clock drivers. Connect 475 ohm resistor to ground.", 5 PCIE2N (hiz) "Differential 100 MHz PCI-Express complementary clock output. High impedance when disabled.", 6 PCIE2P (hiz) "Differential 100 MHz PCI-Express true clock output. High impedance when disabled.", 7 GND (power) "Ground", 8 VDD (power) "3.3 V Power supply", 9 PCIE3N (hiz) "Differential 100 MHz PCI-Express complementary clock output. High impedance when disabled.", 10 PCIE3P (hiz) "Differential 100 MHz PCI-Express true clock output. High impedance when disabled.", 11 VDD (power) "3.3 V Power supply", 12 PCIE0P (hiz) "Differential 100 MHz PCI-Express true clock output. High impedance when disabled.", 13 PCIE0N (hiz) "Differential 100 MHz PCI-Express complementary clock output. High impedance when disabled.", 14 SCLK (in) "SMBus clock input", 15 SDATA (in) "SMBus data input", 16 VDD (power) "3.3 V Power supply", 17 GND (power) "Ground", 18 VDD (power) "3.3 V Power supply", 19 GND (power) "Ground", 20 PD_RESET# (in) "Global reset pin. Powers down PLLs, disables outputs and sets the SMBus tables to their default state when pulled low. Has internal weak pull up.", 21 VDD (power) "3.3 V Power supply", 22 XIN/EXCLKIN (in) "Crystal or clock input. Connect to 25 MHz fundamental mode crystal or clock.", 23 XOUT "Crystal output. Connect to 25 MHz fundamental mode crystal. Float for clock input.", 24 VDD (power) "3.3 V Power supply", 25 NC "No connect. Pin has no internal connection.", 26 25M (out) "25 MHz Single-ended LVCMOS output. Pull-down when disabled by PD_RESET#. Driven low when individually disabled (via SMBus byte 0, bit 0).", 27 GND (power) "Ground", 28 VDD (power) "3.3 V Power supply", 29 GND (power) "Ground", 30 VDD (power) "3.3 V Power supply", 31 GND (power) "Ground", 32 VDD (power) "3.3 V Power supply", 33 EP

## CY24292LFXCT
designator U?
PCI-Express Clock Generator, 3.3 V, 5 Outputs, 100 MHz Maximum, 0 to 70 degC, 32-Pin QFN (LQX32), Tape and Reel; Manufacturer: Cypress; PartNumber: CY24292LFXCT; Max. Operating Voltage (V): 3.6; Min. Operating Voltage (V): 3; No. of Outputs: 5; Output Frequency Max. (MHz): 100; DatasheetVersion: Rev. *D; PackageVersion: Rev. *E; PackageReference: LQX32; PackageDescription: 32-Pin QFN (5 x 4 x 0.55 mm) LQ32 3.5 x 3.5 E-Pad (Sawn); Supplier 1: Digi-Key; Supplier Part Number 1: CY24292LFXCT-ND; Supplier 2: Mouser; Supplier Part Number 2: 727-CY24292LFXCT; Max. Operating Temp. (degreesC): 70; Min. Operating Temp. (degreesC): 0; Packing: Tape and Reel; RoHS: Pb-Free; Mounting Technology: Surface Mount; Code_JEDEC: MO-248; ComponentLink1Description: Manufacturer URL; ComponentLink1URL: http://www.cypress.com/; ComponentLink2Description: Datasheet; ComponentLink2URL: http://www.cypress.com/?docID=32724; ComponentLink3Description: Package Specification; ComponentLink3URL: http://www.cypress.com/?docID=46968
footprint CYP-LQX32_N (QFN, 32-Leads, Body 5x5mm, Pitch 0.5mm, Thermal Pad 3.5x3.5mm, IPC Medium Density)
footprint CYP-LQX32_L (QFN, 32-Leads, Body 5x5mm, Pitch 0.5mm, Thermal Pad 3.5X3.5mm, IPC High Density)
footprint CYP-LQX32_M (QFN, 32-Leads, Body 5x5mm, Pitch 0.5mm, Thermal Pad 3.5x3.5mm, IPC Low Density)
pins: 1 PCIE1P (hiz) "Differential 100 MHz PCI-Express true clock output. High impedance when disabled.", 2 PCIE1N (hiz) "Differential 100 MHz PCI-Express complementary clock output. High impedance when disabled.", 3 GND (power) "Ground", 4 IREF (in) "Current set for all differential clock drivers. Connect 475 ohm resistor to ground.", 5 PCIE2N (hiz) "Differential 100 MHz PCI-Express complementary clock output. High impedance when disabled.", 6 PCIE2P (hiz) "Differential 100 MHz PCI-Express true clock output. High impedance when disabled.", 7 GND (power) "Ground", 8 VDD (power) "3.3 V Power supply", 9 PCIE3N (hiz) "Differential 100 MHz PCI-Express complementary clock output. High impedance when disabled.", 10 PCIE3P (hiz) "Differential 100 MHz PCI-Express true clock output. High impedance when disabled.", 11 VDD (power) "3.3 V Power supply", 12 PCIE0P (hiz) "Differential 100 MHz PCI-Express true clock output. High impedance when disabled.", 13 PCIE0N (hiz) "Differential 100 MHz PCI-Express complementary clock output. High impedance when disabled.", 14 SCLK (in) "SMBus clock input", 15 SDATA (in) "SMBus data input", 16 VDD (power) "3.3 V Power supply", 17 GND (power) "Ground", 18 VDD (power) "3.3 V Power supply", 19 GND (power) "Ground", 20 PD_RESET# (in) "Global reset pin. Powers down PLLs, disables outputs and sets the SMBus tables to their default state when pulled low. Has internal weak pull up.", 21 VDD (power) "3.3 V Power supply", 22 XIN/EXCLKIN (in) "Crystal or clock input. Connect to 25 MHz fundamental mode crystal or clock.", 23 XOUT "Crystal output. Connect to 25 MHz fundamental mode crystal. Float for clock input.", 24 VDD (power) "3.3 V Power supply", 25 NC "No connect. Pin has no internal connection.", 26 25M (out) "25 MHz Single-ended LVCMOS output. Pull-down when disabled by PD_RESET#. Driven low when individually disabled (via SMBus byte 0, bit 0).", 27 GND (power) "Ground", 28 VDD (power) "3.3 V Power supply", 29 GND (power) "Ground", 30 VDD (power) "3.3 V Power supply", 31 GND (power) "Ground", 32 VDD (power) "3.3 V Power supply", 33 EP

## CY24292LFXI
designator U?
PCI-Express Clock Generator, 3.3 V, 5 Outputs, 100 MHz Maximum, -40 to 85 degC, 32-Pin QFN (LQX32), Tube; Manufacturer: Cypress; PartNumber: CY24292LFXI; Max. Operating Voltage (V): 3.6; Min. Operating Voltage (V): 3; No. of Outputs: 5; Output Frequency Max. (MHz): 100; DatasheetVersion: Rev. *D; PackageVersion: Rev. *E; PackageReference: LQX32; PackageDescription: 32-Pin QFN (5 x 4 x 0.55 mm) LQ32 3.5 x 3.5 E-Pad (Sawn); Supplier 1: Digi-Key; Supplier Part Number 1: 428-3013-ND; Supplier 2: Mouser; Supplier Part Number 2: 727-CY24292LFXI; Max. Operating Temp. (degreesC): 85; Min. Operating Temp. (degreesC): -40; Packing: Tube; RoHS: Pb-Free; Mounting Technology: Surface Mount; Code_JEDEC: MO-248; ComponentLink1Description: Manufacturer URL; ComponentLink1URL: http://www.cypress.com/; ComponentLink2Description: Datasheet; ComponentLink2URL: http://www.cypress.com/?docID=32724; ComponentLink3Description: Package Specification; ComponentLink3URL: http://www.cypress.com/?docID=46968
footprint CYP-LQX32_N (QFN, 32-Leads, Body 5x5mm, Pitch 0.5mm, Thermal Pad 3.5x3.5mm, IPC Medium Density)
footprint CYP-LQX32_L (QFN, 32-Leads, Body 5x5mm, Pitch 0.5mm, Thermal Pad 3.5X3.5mm, IPC High Density)
footprint CYP-LQX32_M (QFN, 32-Leads, Body 5x5mm, Pitch 0.5mm, Thermal Pad 3.5x3.5mm, IPC Low Density)
pins: 1 PCIE1P (hiz) "Differential 100 MHz PCI-Express true clock output. High impedance when disabled.", 2 PCIE1N (hiz) "Differential 100 MHz PCI-Express complementary clock output. High impedance when disabled.", 3 GND (power) "Ground", 4 IREF (in) "Current set for all differential clock drivers. Connect 475 ohm resistor to ground.", 5 PCIE2N (hiz) "Differential 100 MHz PCI-Express complementary clock output. High impedance when disabled.", 6 PCIE2P (hiz) "Differential 100 MHz PCI-Express true clock output. High impedance when disabled.", 7 GND (power) "Ground", 8 VDD (power) "3.3 V Power supply", 9 PCIE3N (hiz) "Differential 100 MHz PCI-Express complementary clock output. High impedance when disabled.", 10 PCIE3P (hiz) "Differential 100 MHz PCI-Express true clock output. High impedance when disabled.", 11 VDD (power) "3.3 V Power supply", 12 PCIE0P (hiz) "Differential 100 MHz PCI-Express true clock output. High impedance when disabled.", 13 PCIE0N (hiz) "Differential 100 MHz PCI-Express complementary clock output. High impedance when disabled.", 14 SCLK (in) "SMBus clock input", 15 SDATA (in) "SMBus data input", 16 VDD (power) "3.3 V Power supply", 17 GND (power) "Ground", 18 VDD (power) "3.3 V Power supply", 19 GND (power) "Ground", 20 PD_RESET# (in) "Global reset pin. Powers down PLLs, disables outputs and sets the SMBus tables to their default state when pulled low. Has internal weak pull up.", 21 VDD (power) "3.3 V Power supply", 22 XIN/EXCLKIN (in) "Crystal or clock input. Connect to 25 MHz fundamental mode crystal or clock.", 23 XOUT "Crystal output. Connect to 25 MHz fundamental mode crystal. Float for clock input.", 24 VDD (power) "3.3 V Power supply", 25 NC "No connect. Pin has no internal connection.", 26 25M (out) "25 MHz Single-ended LVCMOS output. Pull-down when disabled by PD_RESET#. Driven low when individually disabled (via SMBus byte 0, bit 0).", 27 GND (power) "Ground", 28 VDD (power) "3.3 V Power supply", 29 GND (power) "Ground", 30 VDD (power) "3.3 V Power supply", 31 GND (power) "Ground", 32 VDD (power) "3.3 V Power supply", 33 EP